# EAGLE library part 6PINHERM (library te_conectivity_6_pin_herm)
https://www.mouser.com/ProductDetail/TE-Connectivity/2213611-3?qs=sGAEpiMZZMsg%252bek5lc7F5uB08Utn55q4E3YUmFQRoIY%3d
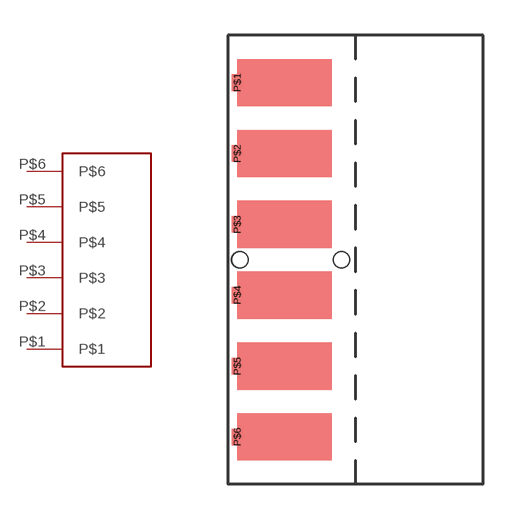
[diagram p0: symbol with the pads of 6PINHERMSMD; footprint 6PINHERMSMD]

Designator prefix -

## 6PINHERM  [6PINHERMSMD]
P$1  P$1
P$2  P$2
P$3  P$3
P$4  P$4
P$5  P$5
P$6  P$6

## Footprint 6PINHERMSMD (pad centres in mm)
smd 0.5 x 0.7: P$1 -5,17; P$2 -5,14; P$3 -5,11; P$4 -5,8; P$5 -5,5; P$6 -5,2
hole 0.65 at -4.9,9.5
hole 0.65 at -0.6,9.5
hole 0.7 at -4.9,9.5
hole 0.7 at -0.6,9.5